# Altium footprint library C_0603.PCBLIB: 1 footprints
Each footprint in its own frame and in the unit in brackets; x right, y up, seen from the top. Pads: shape width x height; smd on the part's side, far side on the other; paste and mask are expansions set on the pad; w line width, h text height; cw(c..) or ccw(c..) is an arc to the next point about the centre after c.
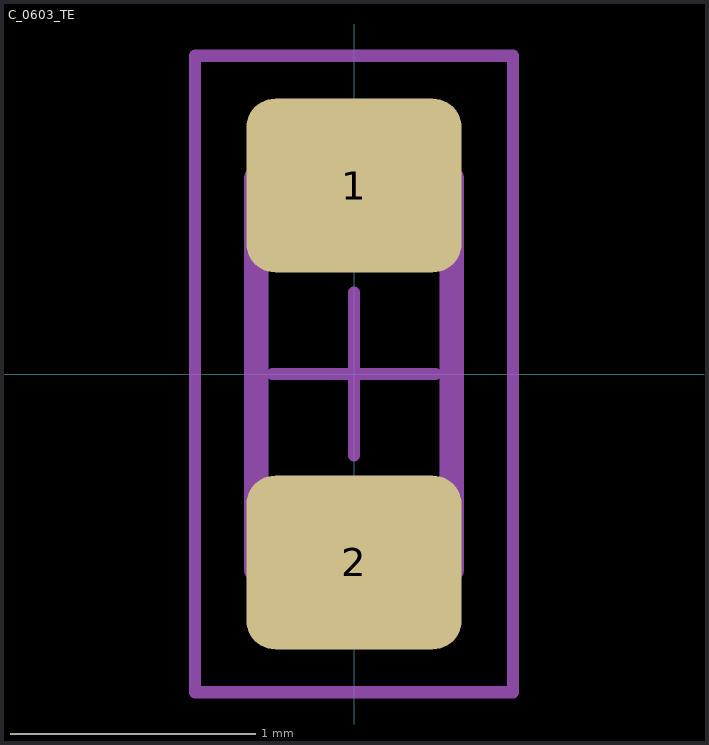
[diagram p0: the footprint, top view; thin cyan lines are the x and y axes]

## C_0603_TE [mm] "Vishay VJ0603 1.6 x 0.8 (+0.15/-0.1) 0.4 +/- 0,15mm Kontakte"
height 0.9
pads (2):
  rrect33% 0.88x0.71 smd: 1(0,0.77) 2(0,-0.77)
Top Assembly:
  lines w0.1: -0.4,-0.5 0.4,-0.5 ; -0.4,0.5 0.4,0.5 ; -0.4,-0.8 -0.4,0.8 0.4,0.8 0.4,-0.8 -0.4,-0.8
Top Courtyard:
  lines w0.05: -0.65,-1.3 -0.65,1.3 0.65,1.3 0.65,-1.3 -0.65,-1.3
Top Designator:
  text ".Designator" at 0.35,0.95 h0.7
Top Component Center:
  lines w0.05: -0.332,0 0.333,0 ; 0,-0.333 0,0.333
3D body "CAPC1608X100L37.STEP": height 1, standoff 0, extent -0.4,-0.8 0.4,0.8